# Altium footprint library Desk.PcbLib: 18 footprints (part 2 of 2)
Each footprint in its own frame and in the unit in brackets; x right, y up, seen from the top. Pads: shape width x height; smd on the part's side, far side on the other; paste and mask are expansions set on the pad; w line width, h text height; cw(c..) or ccw(c..) is an arc to the next point about the centre after c.
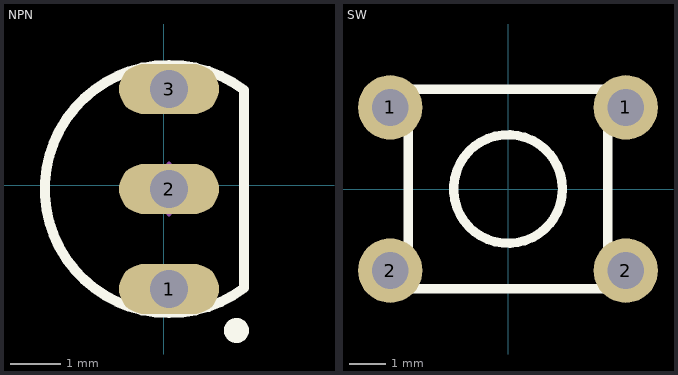
[diagram p1: the footprints below, top view; thin cyan lines are the x and y axes]

## NPN [mm]
pads (3):
  oval 2x1 hole 0.76: 1(0.11,-2.08) 2(0.11,-0.08) 3(0.11,1.92)
Top Overlay:
  circle w0.25: c1.46,-2.91 r0.125
  lines w0.2: 1.61,-2.06 cw(c0.11,-0.08) 1.61,1.9 1.61,-2.06
Mechanical 13:
  lines w0.1: 1.61,-2.06 cw(c0.11,-0.08) 1.61,1.9 1.61,-2.06
Mechanical 15:
  lines w0.1: -0.39,-0.08 0.61,-0.08 ; 0.11,-0.58 0.11,0.42
3D body: height 6.86, standoff 2.2, extent -2.387,-2.577 1.611,2.417

## SW [mil]
pads (4):
  round 70 hole 40: 1(-127.95,88.58) 1(127.95,88.58) 2(-127.95,-88.58) 2(127.95,-88.58)
Top Overlay:
  circle w10: c0,0 r59.06
  lines w10: -108.27,-108.27 -108.27,108.27 108.27,108.27 108.27,-108.27 -108.27,-108.27